# Altium schematic symbol library SunLED TricolourLED.SchLib: 1 symbol
Pins are listed as number, name and electrical type; pins without a type are passive.

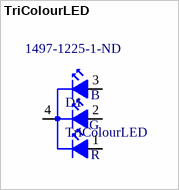
[diagram p0: symbol TriColourLED]

## TriColourLED
designator D1  Supplier Part Number 1: 1497-1225-1-ND
Supplier 1: Digi-Key
footprint TricolourLED - SunLED
pins: 1 Red, 2 Green, 3 Blue, 4
text: B; G; R